# EAGLE library part DS2482-800 (library Puffin)
DS2482-800 I2C-to-1-Wire® bridge device with 8 inputs
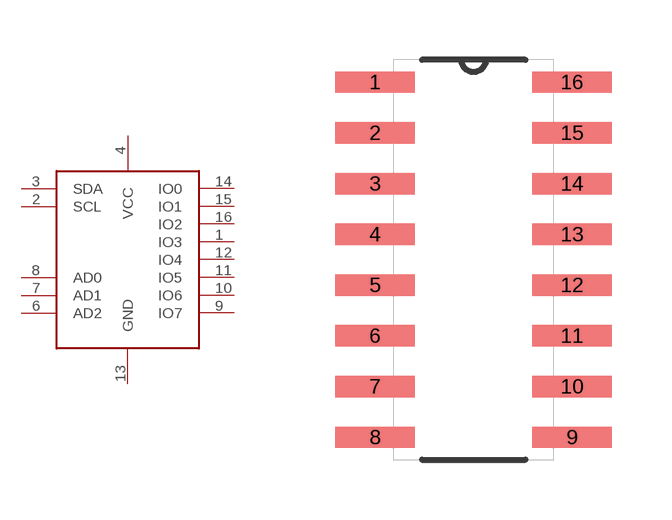
[diagram p1: symbol with the pads of SOIC16; footprint SOIC16]

Designator prefix -

## DS2482-800  [SOIC16]
1  IO3
2  SCL
3  SDA
4  VCC  pwr
6  AD2
7  AD1
8  AD0
9  IO7
10  IO6
11  IO5
12  IO4
13  GND  pwr
14  IO0
15  IO1
16  IO2

## Footprint SOIC16 (pad centres in mm)
8 port 1-Wire to I2C Bridge
smd 1.981 x 0.533: 1 -2.464,4.445; 2 -2.464,3.175; 3 -2.464,1.905; 4 -2.464,0.635; 5 -2.464,-0.635; 6 -2.464,-1.905; 7 -2.464,-3.175; 8 -2.464,-4.445; 9 2.464,-4.445; 10 2.464,-3.175; 11 2.464,-1.905; 12 2.464,-0.635; 13 2.464,0.635; 14 2.464,1.905; 15 2.464,3.175; 16 2.464,4.445